# Altium integrated library SN74141N.IntLib: 1 symbol
Pins are listed as number, name and electrical type; pins without a type are passive.

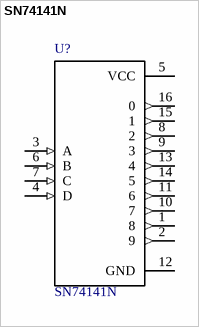
[diagram p0: symbol SN74141N]

## SN74141N
designator U?
MF: Texas Instruments; Package: None; MP: SN74141N; Availability: Unavailable; SnapEDA_Link: https://www.snapeda.com/parts/SN74141N/Texas%20Instruments/view-part/454163/?ref=snap; Price: None; Value: *
footprint *DIP762W46P254L2134H508Q16
pins: 1 8 (out), 2 9 (out), 3 A (in), 4 D (in), 5 VCC (power), 6 B (in), 7 C (in), 8 2 (out), 9 3 (out), 10 7 (out), 11 6 (out), 12 GND, 13 4 (out), 14 5 (out), 15 1 (out), 16 0 (out)